# Altium footprint library PcbLib_Acura.PcbLib: 137 footprints (part 6 of 9)
Each footprint in its own frame and in the unit in brackets; x right, y up, seen from the top. Pads: shape width x height; smd on the part's side, far side on the other; paste and mask are expansions set on the pad; w line width, h text height; cw(c..) or ccw(c..) is an arc to the next point about the centre after c.
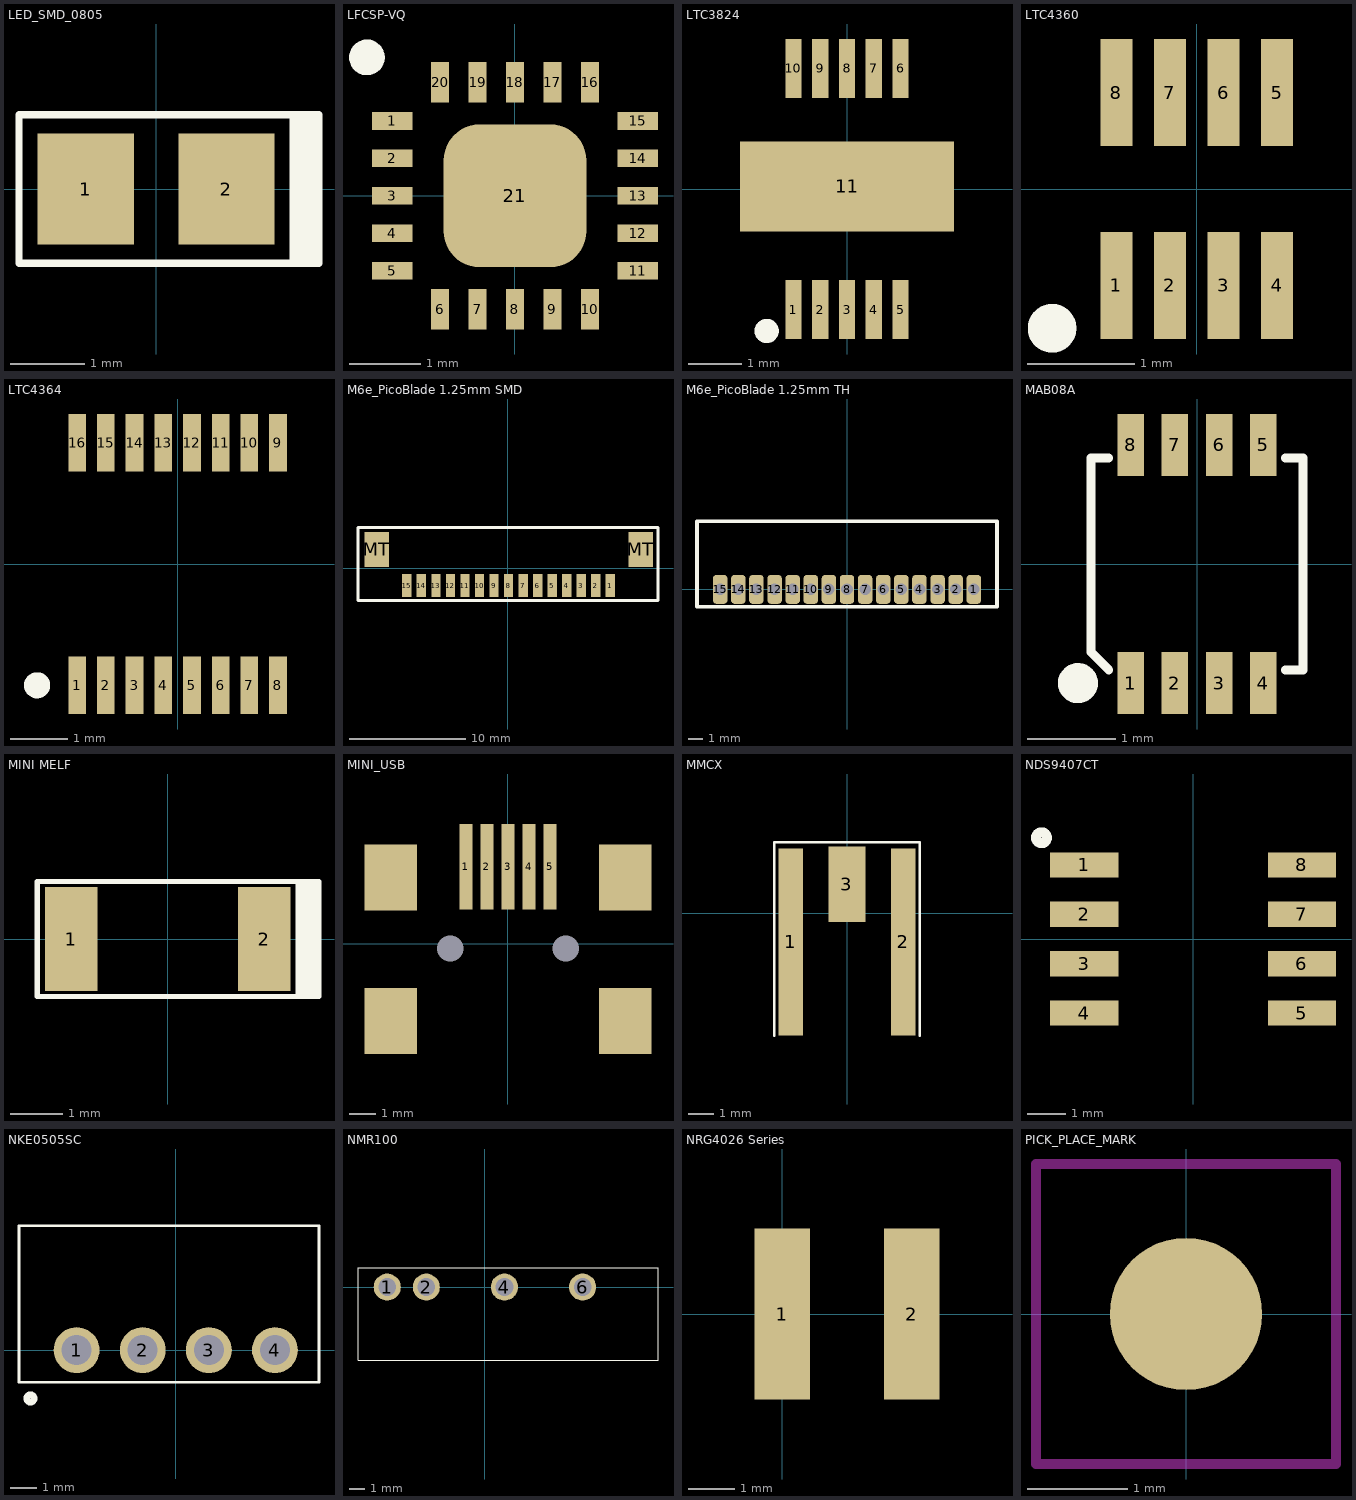
[diagram p5: the footprints below, top view; thin cyan lines are the x and y axes]

## LED_SMD_0805 [mm]
pads (2):
  rect 1.3x1.5 smd: 1(-0.95,0) 2(0.95,0)
Top Overlay:
  rectangle: 1.85,-1 2.2,1
  lines w0.1: 1.85,-1 2.2,-1 2.2,1 1.85,1 ; 1.85,-1 1.85,1 ; 1.85,-1 -1.85,-1 -1.85,0 -1.85,1 1.85,1

## LFCSP-VQ [mm]
pads (21):
  rect 0.57x0.25 smd: 1(-1.72,1.05) 2(-1.72,0.525) 3(-1.72,0) 4(-1.72,-0.525) 5(-1.72,-1.05) 11(1.72,-1.05) 12(1.72,-0.525) 13(1.72,0) 14(1.72,0.525) 15(1.72,1.05)
  rect 0.25x0.57 smd: 6(-1.05,-1.59) 7(-0.525,-1.59) 8(0,-1.59) 9(0.525,-1.59) 10(1.05,-1.59) 16(1.05,1.59) 17(0.525,1.59) 18(0,1.59) 19(-0.525,1.59) 20(-1.05,1.59)
  rrect50% 2x2 smd: 21(0,0)
Top Overlay:
  circle w0.25: c-2.075,1.94 r0.125

## LTC3824 [mm]
pads (11):
  rect 0.305x1.1 smd: 1(-1,-2.25) 2(-0.5,-2.25) 3(0,-2.25) 4(0.5,-2.25) 5(1,-2.25) 6(1,2.25) 7(0.5,2.25) 8(0,2.25) 9(-0.5,2.25) 10(-1,2.25)
  rect 4x1.68 smd: 11(0,0.05)
Top Overlay:
  circle w0.254: c-1.5,-2.65 r0.1

## LTC4360 [mm] "Overvoltage Protection"
pads (8):
  rect 0.3x1 smd: 1(-0.75,-0.9) 3(0.25,-0.9) 4(0.75,-0.9) 5(0.75,0.9) 6(0.25,0.9) 7(-0.25,0.9) 8(-0.75,0.9)
  rect 0.3x1 smd paste+0: 2(-0.25,-0.9)
Top Overlay:
  circle w0.254: c-1.35,-1.3 r0.1

## LTC4364 [mm] "Surge Stopper"
pads (16):
  rect 0.308x1 smd: 1(-1.75,-2.115) 2(-1.25,-2.115) 3(-0.75,-2.115) 4(-0.25,-2.115) 5(0.25,-2.115) 6(0.75,-2.115) 7(1.25,-2.115) 8(1.75,-2.115) 9(1.75,2.115) 10(1.25,2.115) 11(0.75,2.115) 12(0.25,2.115) 13(-0.25,2.115) 14(-0.75,2.115) 15(-1.25,2.115) 16(-1.75,2.115)
Top Overlay:
  circle w0.254: c-2.45,-2.115 r0.1

## M6e_PicoBlade 1.25mm SMD [mm] "M6e_0532611571_1.25mm Pitch PicoBlade Header, Surface Mount, Right Angle, Lead-Free, 15 Circuits"
height 3.4
pads (17):
  rect 0.8x2 smd: 1(8.801,-1.499) 2(7.551,-1.499) 3(6.301,-1.499) 4(5.051,-1.499) 5(3.801,-1.499) 6(2.551,-1.499) 7(1.301,-1.499) 8(0.051,-1.499) 9(-1.199,-1.499) 10(-2.449,-1.499) 11(-3.699,-1.499) 12(-4.949,-1.499) 13(-6.199,-1.499) 14(-7.449,-1.499) 15(-8.699,-1.499)
  rect 2.1x3 smd: MT(-11.299,1.601) MT(11.401,1.601)
Top Overlay:
  lines w0.254: -12.899,-2.799 9.501,-2.799 12.901,-2.799 12.901,3.501 -12.699,3.501 -12.899,3.501 -12.899,-2.799

## M6e_PicoBlade 1.25mm TH [mm] "M6e_0530481510_1.25mm Pitch PicoBlade Header, Surface Mount, Right Angle, Lead-Free, 15 Circuits"
height 3.4
pads (15):
  rrect50% 1x2 hole 0.8: 1(8.75,0) 2(7.5,0) 3(6.25,0) 4(5,0) 5(3.75,0) 6(2.5,0) 7(1.25,0) 8(0,0) 9(-1.25,0) 10(-2.5,0) 11(-3.75,0) 12(-5,0) 13(-6.25,0) 14(-7.5,0) 15(-8.75,0)
Top Overlay:
  lines w0.254: -10.35,4.6 -10.35,0 -10.35,-1.2 -9.55,-1.2 10.35,-1.2 10.35,4.7 -10.35,4.7

## MAB08A [mm] "FSA3357"
pads (8):
  rect 0.3x0.7 smd: 1(-0.75,-1.35) 2(-0.25,-1.35) 3(0.25,-1.35) 4(0.75,-1.35) 5(0.75,1.35) 6(0.25,1.35) 7(-0.25,1.35) 8(-0.75,1.35)
Top Overlay:
  circle w0.254: c-1.35,-1.35 r0.1
  lines w0.1: -1,-1.2 -1.2,-1 -1.2,1.2 -1,1.2 ; 1,-1.2 1.2,-1.2 1.2,1.2 1,1.2

## MINI MELF [mm]
pads (2):
  rect 1x2 smd: 1(-1.85,0) 2(1.85,0)
Top Overlay:
  rectangle: 2.5,-1.1 2.9,1.1
  lines w0.1: 2.5,-1.1 -2.5,-1.1 -2.5,-0.15 -2.5,1.1 2.5,1.1 ; 2.5,-1.1 2.5,1.1 ; 2.5,-1.1 2.9,-1.1 2.9,1.1 2.5,1.1

## MINI_USB [mm] "Mini USB 5 vias"
pads (11):
  rect 0.5x3.25 smd: 1(-1.6,2.925) 2(-0.8,2.925) 3(0,2.925) 4(0.8,2.925) 5(1.6,2.925)
  rect 2x2.5 smd: ""(-4.45,-2.925) ""(-4.45,2.525) ""(4.45,-2.925) ""(4.45,2.525)
  round 0 hole 1: ""(-2.2,-0.175) ""(2.2,-0.175)

## MMCX [mm]
pads (3):
  rect 0.97x7.42 smd: 1(-2.235,-1.145) 2(2.235,-1.145)
  rect 1.47x3 smd: 3(-0.005,1.145)
Top Overlay:
  lines w0.1: -2.875,-4.865 -2.875,2.695 -2.875,2.804 -2.725,2.804 -2.724,2.805 -0.545,2.805 2.875,2.805 2.875,2.365 2.875,-4.855

## NDS9407CT [mm]
pads (8):
  rect 1.75x0.65 smd: 1(-2.8,1.905) 2(-2.8,0.635) 3(-2.8,-0.635) 4(-2.8,-1.905) 5(2.8,-1.905) 6(2.8,-0.635) 7(2.8,0.635) 8(2.8,1.905)
Top Overlay:
  circle w0.254: c-3.9,2.605 r0.141

## NKE0505SC [mm] "CONV DC DC"
pads (4):
  round 1.762 hole 1.15: 1(-3.81,0) 2(-1.27,0) 3(1.27,0) 4(3.81,0)
Top Overlay:
  circle w0.254: c-5.58,-1.855 r0.141
  lines w0.1: -6.02,-1.23 5.5,-1.23 5.5,4.77 -6.02,4.77 -6.02,-1.23

## NMR100 [mm] "CONV DC DC"
pads (4):
  round 1.762 hole 1.15: 1(-6.35,0) 2(-3.81,0) 4(1.27,0) 6(6.35,0)
Top Overlay:
  lines w0.05: -8.25,-4.75 11.25,-4.75 11.25,1.25 -8.25,1.25 -8.25,-4.75

## NRG4026 Series [mm] "Inductor"
pads (2):
  rect 1.2x3.7 smd: 1(0,0) 2(2.8,0)

## PICK_PLACE_MARK [mil]
pads (1):
  round 60 smd: ""(0,0)
Top Solder:
  rectangle: -59.06,-59.06 59.06,59.06
Keep-Out Layer:
  lines w3.94: -59.06,-59.06 59.06,-59.06 59.06,59.06 -59.06,59.06 -59.06,-59.06